# Altium schematic symbol library MC06XS4200.SchLib: 1 symbol
Pins are listed as number, name and electrical type; pins without a type are passive.

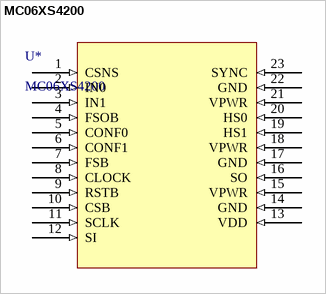
[diagram p0: symbol MC06XS4200]

## MC06XS4200
designator U*
footprint PQFN50P1200X1200X220_HS-33N (PQFN, 32-Leads, Body 12.00x12.00mm, Pitch 0.50mm, Thermal Pad 4.00x2.20mm, IPC Medium Density)
pins: 1 CSNS (in), 2 IN0 (in), 3 IN1 (in), 4 FSOB (in), 5 CONF0 (in), 6 CONF1 (in), 7 FSB (in), 8 CLOCK (in), 9 RSTB (in), 10 CSB (in), 11 SCLK (in), 12 SI (in), 13 VDD (in), 14 GND (in), 15 VPWR (in), 16 SO (in), 17 GND (in), 18 VPWR (in), 19 HS1 (in), 20 HS0 (in), 21 VPWR (in), 22 GND (in), 23 SYNC (in)